# Altium schematic symbol library NCP1117ST33T3G.SchLib: 1 symbol
Pins are listed as number, name and electrical type; pins without a type are passive.

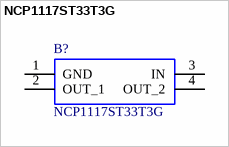
[diagram p0: symbol NCP1117ST33T3G]

## NCP1117ST33T3G
designator B?
ON SEMICONDUCTOR - NCP1117ST33T3G - IC, LINEAR VOLTAGE REGULATOR; Allied_Number: 70340559; Geometry.Height: 1.8mm; Manufacturer_Name: ON Semiconductor; Manufacturer_Part_Number: NCP1117ST33T3G; RS Part Number: 7857207P; RS Price/Stock: http://uk.rs-online.com/web/p/products/7857207P; Allied Price/Stock: http://www.alliedelec.com/on-semiconductor-ncp1117st33t3g/70340559/; Arrow Part Number: NCP1117ST33T3G; Arrow Price/Stock: https://www.arrow.com/en/products/ncp1117st33t3g/on-semiconductor; Datasheet Link: http://www.onsemi.com/pub/Collateral/NCP1117-D.PDF
footprint SOT230P700X180-4N
pins: 1 GND, 2 OUT_1, 3 IN, 4 OUT_2